# Altium schematic symbol library SensorAccelMagnet.SchLib: 2 symbols
Pins are listed as number, name and electrical type; pins without a type are passive.

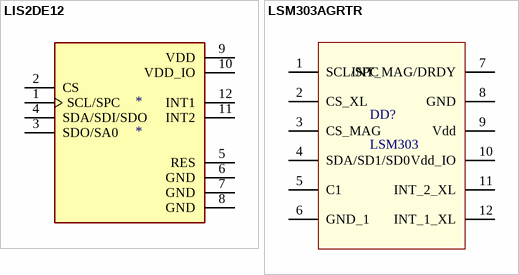
[diagram p0: symbols LIS2DE12 to LSM303AGRTR]

## LIS2DE12
designator *
footprint LIS2DE12
pins: 1 SCL/SPC, 2 CS, 3 SDO/SA0, 4 SDA/SDI/SDO, 5 RES, 6 GND (power), 7 GND (power), 8 GND (power), 9 VDD (power), 10 VDD_IO (power), 11 INT2, 12 INT1

## LSM303AGRTR
designator DD?, comment LSM303
footprint LSM303AGRTR
pins: 1 SCL/SPC, 2 CS_XL, 3 CS_MAG, 4 SDA/SD1/SD0, 5 C1, 6 GND_1, 7 INT_MAG/DRDY, 8 GND, 9 Vdd, 10 Vdd_IO, 11 INT_2_XL, 12 INT_1_XL